# Altium schematic symbol library OPA2277.SchLib: 1 symbol
Pins are listed as number, name and electrical type; pins without a type are passive.

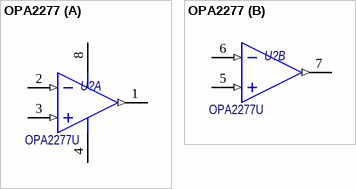
[diagram p0: symbol OPA2277]

## OPA2277
designator U?, comment OPA2277U
OPA2277 High Precision Operational Amplifiers /; Потребление, Вт: 0.01; Назначение: OPA2277 High Precision Operational Amplifiers; ComponentLink1Description: DataSheet; ComponentLink1URL: https://www.ti.com/lit/ds/symlink/opa2277.pdf?ts=1651172104371; Наименование: OPA2277U
footprint SOIC-8
part A pins: 1 OUT A (out), 2 -IN A (in), 3 +IN A (in), 4 -V (power), 8 +V (power)
part B pins: 5 +IN B (in), 6 -IN B (in), 7 OUT B (out)